# Altium schematic symbol library SKY13446-374LF.SchLib: 1 symbol
Pins are listed as number, name and electrical type; pins without a type are passive.

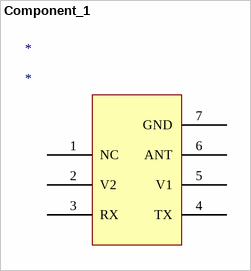
[diagram p0: symbol Component_1]

## Component_1
designator *
footprint PCBComponent_1
pins: 1 NC, 2 V2, 3 RX, 4 TX, 5 V1, 6 ANT, 7 GND